# Altium footprint library IC_Texas_Instruments_LM1117MPX-3.3-NOPB_eec_0.PcbLib: 1 footprints
Each footprint in its own frame and in the unit in brackets; x right, y up, seen from the top. Pads: shape width x height; smd on the part's side, far side on the other; paste and mask are expansions set on the pad; w line width, h text height; cw(c..) or ccw(c..) is an arc to the next point about the centre after c.
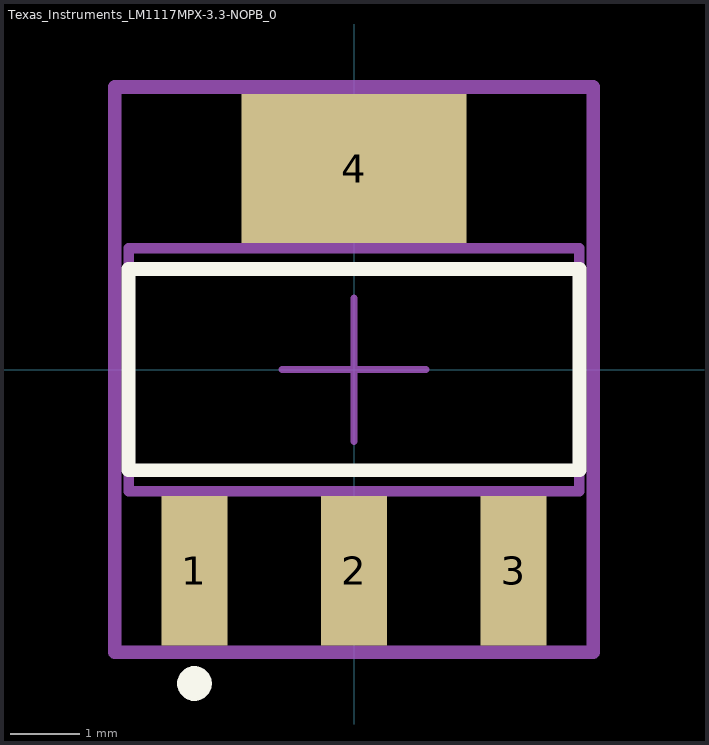
[diagram p0: the footprint, top view; thin cyan lines are the x and y axes]

## Texas_Instruments_LM1117MPX-3.3-NOPB_0 [mm]
pads (4):
  rect 0.95x2.15 smd paste+0 mask+0: 1(-2.3,-2.9) 2(0,-2.9) 3(2.3,-2.9)
  rect 3.25x2.15 smd paste+0 mask+0: 4(0,2.9)
Top Overlay:
  circle w0.25: c-2.3,-4.525 r0.125
  lines w0.2: -3.25,-1.45 3.25,-1.45 3.25,1.45 -3.25,1.45 -3.25,-1.45
Mechanical 10:
  lines w0.2: -3.45,-4.075 3.45,-4.075 3.45,4.075 -3.45,4.075 -3.45,-4.075
  text ".Designator" at 0,0 h1
Mechanical 12:
  lines w0.152: -3.25,-1.75 3.25,-1.75 3.25,1.75 -3.25,1.75 -3.25,-1.75
Mechanical 15:
  lines w0.1: -1.035,0 1.035,0 ; 0,-1.035 0,1.035
  lines w0.2: -3.45,-4.075 3.45,-4.075 3.45,4.075 -3.45,4.075 -3.45,-4.075
3D body "IC_Texas_Instruments_LM1117MPX-3.3-NOPB_eec.STEP": height 0.25, standoff 0, extent -3.45,-4.075 3.45,4.075